# Altium schematic symbol library LMX2594RHAT.SchLib: 1 symbol
Pins are listed as number, name and electrical type; pins without a type are passive.

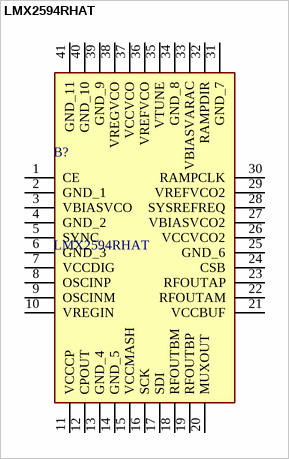
[diagram p0: symbol LMX2594RHAT]

## LMX2594RHAT
designator B?
15 GHz Wideband PLLatinum&#153; RF Synthesizer with Phase Synchronization and JESD204B support; Manufacturer_Name: Texas Instruments; Geometry.Height: 1mm; Mouser Part Number: 595-LMX2594RHAT; Mouser Price/Stock: https://www.mouser.co.uk/ProductDetail/Texas-Instruments/LMX2594RHAT?qs=u4fy%2FsgLU9MDLiK1aIrqCw%3D%3D; Manufacturer_Part_Number: LMX2594RHAT; Datasheet Link: http://www.ti.com/lit/gpn/lmx2594
footprint QFN50P600X600X100-41N-D
pins: 1 CE, 2 GND_1, 3 VBIASVCO, 4 GND_2, 5 SYNC, 6 GND_3, 7 VCCDIG, 8 OSCINP, 9 OSCINM, 10 VREGIN, 11 VCCCP, 12 CPOUT, 13 GND_4, 14 GND_5, 15 VCCMASH, 16 SCK, 17 SDI, 18 RFOUTBM, 19 RFOUTBP, 20 MUXOUT, 21 VCCBUF, 22 RFOUTAM, 23 RFOUTAP, 24 CSB, 25 GND_6, 26 VCCVCO2, 27 VBIASVCO2, 28 SYSREFREQ, 29 VREFVCO2, 30 RAMPCLK, 31 GND_7, 32 RAMPDIR, 33 VBIASVARAC, 34 GND_8, 35 VTUNE, 36 VREFVCO, 37 VCCVCO, 38 VREGVCO, 39 GND_9, 40 GND_10, 41 GND_11